# EAGLE library part APA102 (library pimoroni)
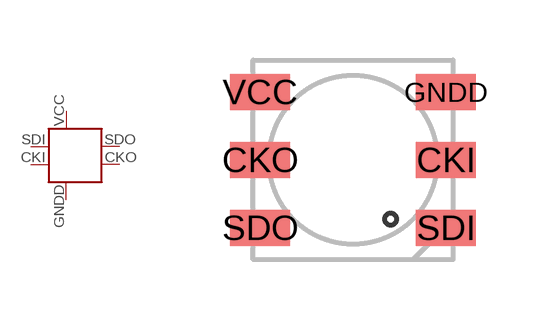
[diagram p59: symbol with the pads of APA102; footprint APA102]

Designator prefix LED

## APA102  [APA102]
CKI  CKI  in
CKO  CKO  out
GNDD  GND  pwr
SDI  SDI  in
SDO  SDO  out
VCC  VCC  pwr

## Footprint APA102 (pad centres in mm)
smd 1.5 x 0.9: CKI 2.324,0; CKO -2.324,0; GNDD 2.324,1.7; SDI 2.324,-1.7; SDO -2.324,-1.7; VCC -2.324,1.7